# EAGLE library part PUSH2 (library mita-akiba)
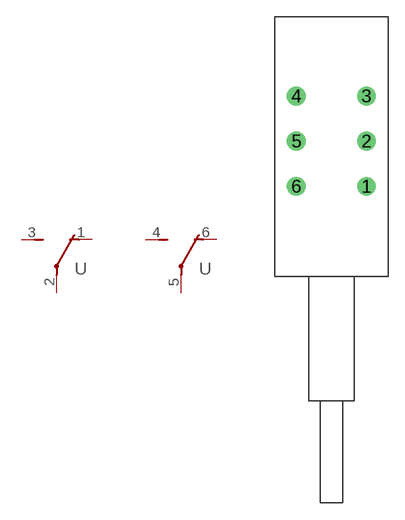
[diagram p20: symbol with the pads of PUSH2; footprint PUSH2]

Designator prefix -; gates G$1=U G$2=U

## PUSH2  [PUSH2]
1  G$1:O  pas
2  G$1:P  pas
3  G$1:S  pas
4  G$2:S  pas
5  G$2:P  pas
6  G$2:O  pas

## Footprint PUSH2 (pad centres in mm)
drill 1 pad 1.676: 1 3.1,-4; 2 3.1,0; 3 3.1,4; 4 -3.1,4; 5 -3.1,0; 6 -3.1,-4